# Altium footprint library NX2012SA-32.768K-STD-MUB-1.PcbLib: 2 footprints
Each footprint in its own frame and in the unit in brackets; x right, y up, seen from the top. Pads: shape width x height; smd on the part's side, far side on the other; paste and mask are expansions set on the pad; w line width, h text height; cw(c..) or ccw(c..) is an arc to the next point about the centre after c.
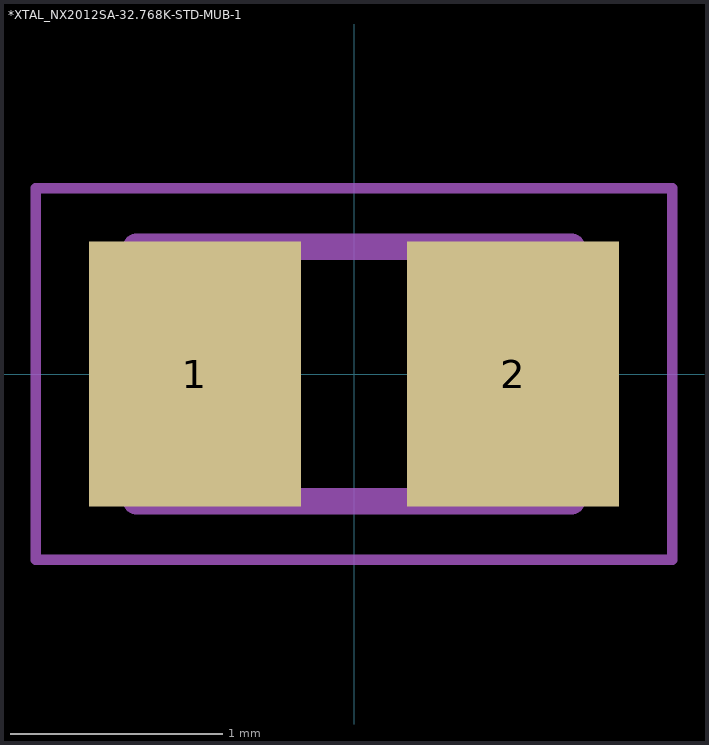
[diagram p0: the footprints below, top view; thin cyan lines are the x and y axes]

## *XTAL_NX2012SA-32.768K-STD-MUB-1 [mm]
pads (2):
  rect 1x1.25 smd: 1(-0.75,0) 2(0.75,0)
Mechanical 4:
  lines w0.127: -1.025,-0.6 1.025,-0.6 ; -1.025,-0.6 -1.025,0.6 ; -1.025,-0.6 1.025,-0.6 ; -1.025,-0.6 -1.025,0.6 ; -1.025,0.6 1.025,0.6 ; -1.025,0.6 1.025,0.6 ; 1.025,-0.6 1.025,0.6 ; 1.025,-0.6 1.025,0.6
Mechanical 16:
  lines w0.05: -1.5,-0.875 1.5,-0.875 1.5,0.875 -1.5,0.875 -1.5,-0.875

## PCBComponent_1 [mm]